# EAGLE library part 750314288 (library Wurth_Power Magnetics_WE-OLSTM)
WE-OLSTM Offline Flyback Transformers Characteristics Nominal input voltage: 85–265 VAC (120–375 VDC) Operating temperature: –40 °C to +125 °C Isolation voltage: 2 kVAC up to 5 kVAC Multiple output options Options for fixed frequency or quasi-resonant mode operation Most products meet reinforced insulation Applications Offline-switch mode power supplies Especially designed for several ICs from STMicroelectronics Auxiliary power supply Home appliances Consumer electronics <https://www.we-online.com/components/media/o781306v209%20FAMILY-MID-OLSTM.jpg> Details see: www.we-online.com/en/components/products/WE-OLSTM <www.we-online.com/en/components/products/WE-OLSTM/?utm_source=eagle_model&utm_medium=description_link&utm_campaign=eisos_eagle> Created by Leviosa 2024-04-15 2024(C) Wurth Elektronik
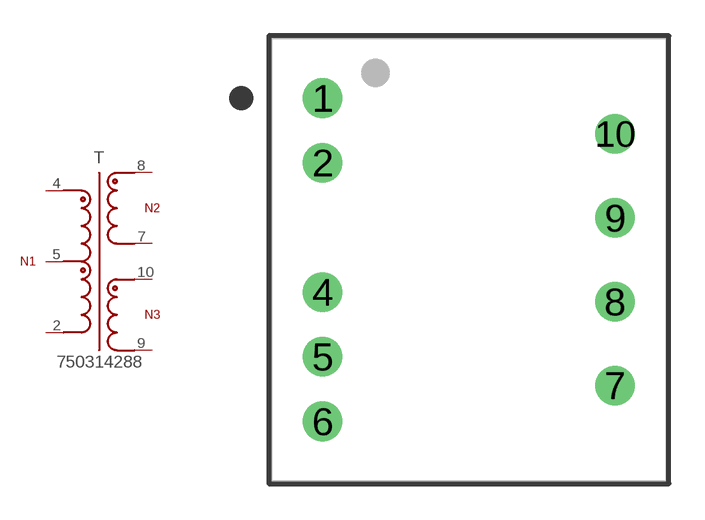
[diagram p27: symbol with the pads of WE-OLSTM_EE16_750314288; footprint WE-OLSTM_EE16_750314288]

Designator prefix T

## 750314288 (DATASHEET-URL: https://www.we-online.com/redexpert/spec/750314288?ae; FSWITCH: 60kHz; IOUT1: 800mA; IOUT2: 420mA; ISAT: 500mA; L: 2.5mH; MOUNT: THT; N: 14.2:1.4:1; PART-NUMBER: 750314288; SIZE: EE16/7/5; VALUE: 750314288; VIN: 85 - 265 V (AC); VOUT1: -5V; VOUT2: 7V; VT: 2000V(AC))  [WE-OLSTM_EE16_750314288]
2  2  pas
4  4  pas
5  5  pas
7  7  pas
8  8  pas
9  9  pas
10  10  pas

## Footprint WE-OLSTM_EE16_750314288 (pad centres in mm)
WE-OLSTM Offline Flyback Transformers for STMicroelectronics Size: EE16, THT, 9Pins LXWXH=18.5X16.5X18.8mm
drill 1.1: 1 -6.1,6.75; 2 -6.1,4.05; 4 -6.1,-1.35; 5 -6.1,-4.05; 6 -6.1,-6.75; 7 6.1,-5.25; 8 6.1,-1.75; 9 6.1,1.75; 10 6.1,5.25